# Altium footprint library Pulse.PcbLib: 2 footprints
Each footprint in its own frame and in the unit in brackets; x right, y up, seen from the top. Pads: shape width x height; smd on the part's side, far side on the other; paste and mask are expansions set on the pad; w line width, h text height; cw(c..) or ccw(c..) is an arc to the next point about the centre after c.
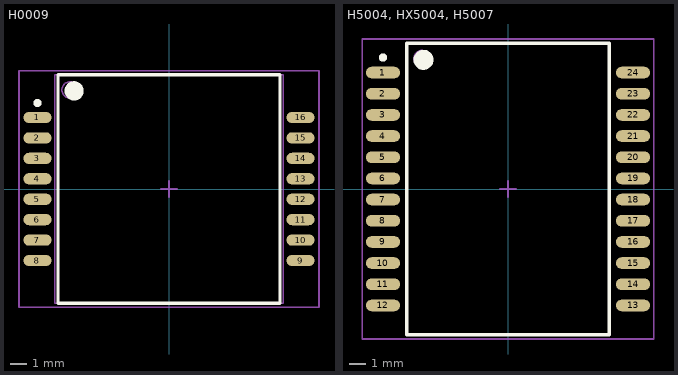
[diagram p0: the footprints below, top view; thin cyan lines are the x and y axes]

## H0009 [mm] "H0009"
height 2.08
pads (16):
  oval 1.75x0.7 smd: 1(-8.175,4.445) 2(-8.175,3.175) 3(-8.175,1.905) 4(-8.175,0.635) 5(-8.175,-0.635) 6(-8.175,-1.905) 7(-8.175,-3.175) 8(-8.175,-4.445) 9(8.175,-4.445) 10(8.175,-3.175) 11(8.175,-1.905) 12(8.175,-0.635) 13(8.175,0.635) 14(8.175,1.905) 15(8.175,3.175) 16(8.175,4.445)
Top Overlay:
  circle w0.25: c-8.175,5.345 r0.125
  circle w0.6: c-5.9,6.1 r0.3
  lines w0.2: -6.9,-7.1 -6.9,7.1 6.9,7.1 6.9,-7.1 -6.9,-7.1
Mechanical 13:
  circle w0.1: c-6.16,6.16 r0.5
  lines w0.1: -7.11,-7.11 -7.11,7.11 7.11,7.11 7.11,-7.11 -7.11,-7.11
Mechanical 15:
  lines w0.1: -0.5,0 0.5,0 ; 0,-0.5 0,0.5 ; -9.325,-7.35 -9.325,7.35 9.325,7.35 9.325,-7.35 -9.325,-7.35
3D body: height 2.08, standoff 0.08, extent -7.11,-7.11 7.11,7.11

## H5004, HX5004, H5007 [mm]
height 5.61
pads (24):
  oval 2.05x0.7 smd: 1(-7.5,6.985) 2(-7.5,5.715) 3(-7.5,4.445) 4(-7.5,3.175) 5(-7.5,1.905) 6(-7.5,0.635) 7(-7.5,-0.635) 8(-7.5,-1.905) 9(-7.5,-3.175) 10(-7.5,-4.445) 11(-7.5,-5.715) 12(-7.5,-6.985) 13(7.5,-6.985) 14(7.5,-5.715) 15(7.5,-4.445) 16(7.5,-3.175) 17(7.5,-1.905) 18(7.5,-0.635) 19(7.5,0.635) 20(7.5,1.905) 21(7.5,3.175) 22(7.5,4.445) 23(7.5,5.715) 24(7.5,6.985)
Top Layer:
  text "" at -13.843,3.175 h1.52
Top Overlay:
  circle w0.6: c-5.075,7.75 r0.3
  circle w0.25: c-7.5,7.885 r0.125
  lines w0.2: -6.075,-8.75 6.075,-8.75 6.075,8.75 -6.075,8.75 -6.075,-8.75
Mechanical 13:
  circle w0.1: c-5.15,7.815 r0.5
  lines w0.1: -6.1,-8.765 6.1,-8.765 6.1,8.765 -6.1,8.765 -6.1,-8.765
Mechanical 15:
  lines w0.1: -0.5,0 0.5,0 ; 0,-0.5 0,0.5 ; -8.75,-9 8.75,-9 8.75,9 -8.75,9 -8.75,-9
3D body: height 5.61, standoff 0.25, extent -6.1,-8.765 6.1,8.765